# Altium footprint library PCB_Passive.PcbLib: 45 footprints (part 1 of 3)
Each footprint in its own frame and in the unit in brackets; x right, y up, seen from the top. Pads: shape width x height; smd on the part's side, far side on the other; paste and mask are expansions set on the pad; w line width, h text height; cw(c..) or ccw(c..) is an arc to the next point about the centre after c.
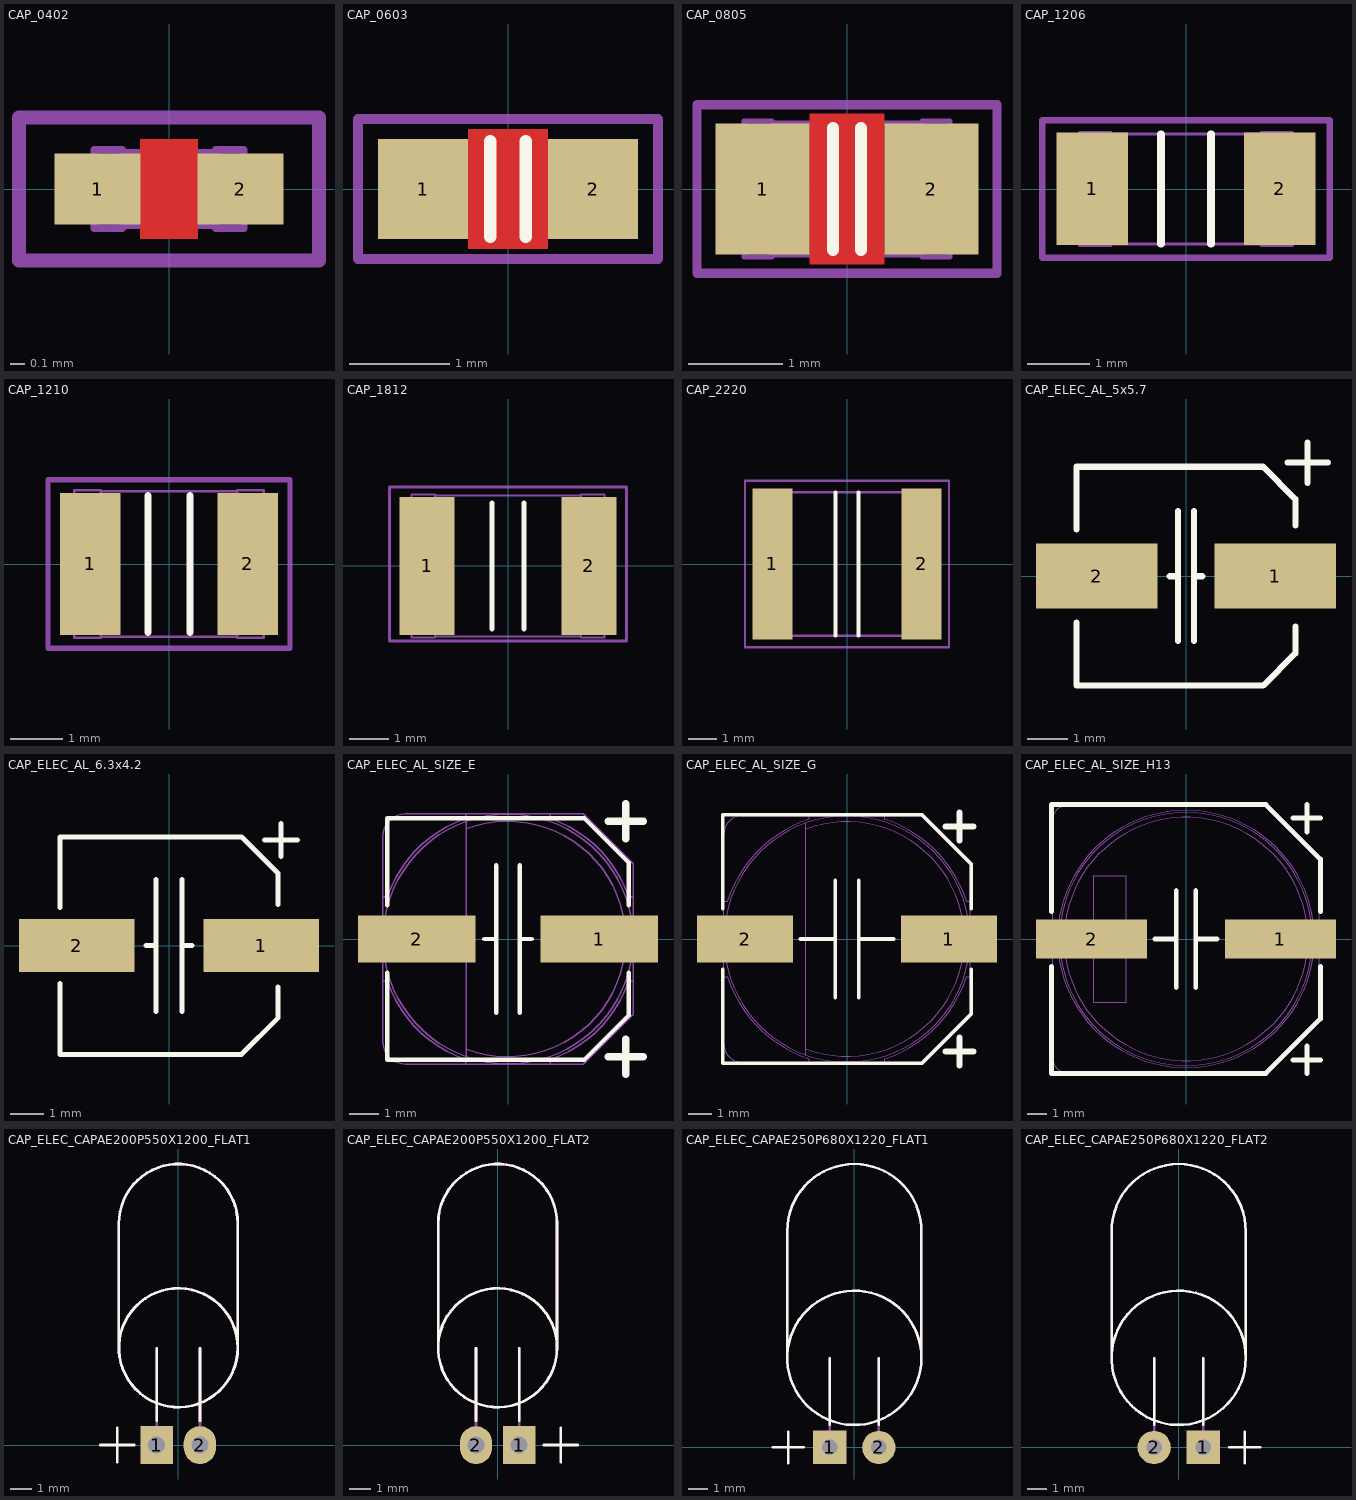
[diagram p0: the footprints below, top view; thin cyan lines are the x and y axes]

## CAP_0402 [mm] "Chip Capacitor, Body 1.0x0.5mm, 0402, IPC Medium Density"
height 0.55
pads (2):
  rect 0.6x0.5 smd: 1(-0.5,0) 2(0.5,0)
Top Layer:
  pour cut-out: -0.2,0.35 0.2,0.35 0.2,-0.35 -0.2,-0.35
Mechanical 13:
  lines w0.05: -0.325,-0.255 0.325,-0.255 ; -0.325,0.255 0.325,0.255 ; -0.525,-0.275 -0.325,-0.275 -0.325,0.275 -0.525,0.275 -0.525,-0.275 ; 0.325,-0.275 0.325,0.275 0.525,0.275 0.525,-0.275 0.325,-0.275
Mechanical 14:
  lines w0.1: -1.05,-0.5 1.05,-0.5 1.05,0.5 -1.05,0.5 -1.05,-0.5
3D body: height 0.55, standoff 0, extent -0.525,-0.275 0.525,0.275

## CAP_0603 [mm] "Chip Capacitor, Body 1.6x0.8mm, 0603, IPC Medium Density"
height 0.8
pads (2):
  rect 0.9x1 smd: 1(-0.85,0) 2(0.85,0)
Top Layer:
  pour cut-out: -0.4,0.6 0.4,0.6 0.4,-0.6 -0.4,-0.6
Top Overlay:
  lines w0.127: -0.178,-0.476 -0.178,0.476 ; 0.178,-0.476 0.178,0.476
Mechanical 13:
  lines w0.05: -0.55,-0.43 0.55,-0.43 ; -0.55,0.43 0.55,0.43 ; -0.85,-0.45 -0.55,-0.45 -0.55,0.45 -0.85,0.45 -0.85,-0.45 ; 0.55,-0.45 0.85,-0.45 0.85,0.45 0.55,0.45 0.55,-0.45
Mechanical 14:
  lines w0.1: -1.5,-0.7 1.5,-0.7 1.5,0.7 -1.5,0.7 -1.5,-0.7
3D body: height 0.89, standoff -0.01, extent -0.85,-0.45 0.85,0.45

## CAP_0805 [mm] "Chip Capacitor, Body 2.0x1.2mm, 0805, IPC Medium Density"
height 1.2
pads (2):
  rect 1x1.4 smd: 1(-0.9,0) 2(0.9,0)
Top Layer:
  pour cut-out: -0.4,0.8 0.4,0.8 0.4,-0.8 -0.4,-0.8
Top Overlay:
  lines w0.127: -0.15,-0.651 -0.15,0.651 ; 0.15,-0.651 0.15,0.651
Mechanical 13:
  lines w0.05: -0.8,-0.705 0.8,-0.705 ; -0.8,0.705 0.8,0.705 ; -1.1,-0.725 -0.8,-0.725 -0.8,0.725 -1.1,0.725 -1.1,-0.725 ; 0.8,-0.725 0.8,0.725 1.1,0.725 1.1,-0.725 0.8,-0.725
Mechanical 14:
  lines w0.1: -1.6,-0.9 1.6,-0.9 1.6,0.9 -1.6,0.9 -1.6,-0.9
3D body: height 1.34, standoff -0.01, extent -1.1,-0.725 1.1,0.725

## CAP_1206 [mm] "Chip Capacitor, Body 3.2x1.6mm, 1206, IPC Medium Density"
height 1.6
pads (2):
  rect 1.15x1.8 smd: 1(-1.5,0) 2(1.5,0)
Top Overlay:
  lines w0.127: -0.4,-0.876 -0.4,0.876 ; 0.4,-0.876 0.4,0.876
Mechanical 13:
  lines w0.05: -1.2,-0.88 1.2,-0.88 ; -1.2,0.88 1.2,0.88 ; -1.7,-0.9 -1.7,0.9 -1.2,0.9 -1.2,-0.9 -1.7,-0.9 ; 1.2,-0.9 1.2,0.9 1.7,0.9 1.7,-0.9 1.2,-0.9
Mechanical 14:
  lines w0.1: -2.3,-1.1 2.3,-1.1 2.3,1.1 -2.3,1.1 -2.3,-1.1
3D body: height 1.74, standoff -0.01, extent -1.7,-0.9 1.7,0.9

## CAP_1210 [mm] "Chip Capacitor, Body 3.2x2.5mm, 1210, IPC Medium Density"
height 2.54
pads (2):
  rect 1.15x2.7 smd: 1(-1.5,0) 2(1.5,0)
Top Overlay:
  lines w0.127: -0.4,-1.3 -0.4,1.3 ; 0.4,-1.3 0.4,1.3
Mechanical 13:
  lines w0.05: -1.3,-1.38 1.3,-1.38 ; -1.3,1.38 1.3,1.38 ; -1.8,-1.4 -1.8,1.4 -1.3,1.4 -1.3,-1.4 -1.8,-1.4 ; 1.3,-1.4 1.8,-1.4 1.8,1.4 1.3,1.4 1.3,-1.4
Mechanical 14:
  lines w0.1: -2.3,-1.6 2.3,-1.6 2.3,1.6 -2.3,1.6 -2.3,-1.6
3D body: height 2.19, standoff -0.01, extent -1.8,-1.4 1.8,1.4

## CAP_1812 [mm] "Chip Capacitor, Body 4.5x3.2mm, 1812, IPC Medium Density"
height 2.5
pads (2):
  rect 1.4x3.5 smd: 1(-2.05,0) 2(2.05,0)
Top Overlay:
  lines w0.127: -0.4,-1.6 -0.4,1.6 ; 0.4,-1.6 0.4,1.6
Mechanical 13:
  lines w0.05: -1.85,-1.791 1.85,-1.791 ; -1.85,1.791 1.85,1.791 ; -2.45,-1.811 -2.45,1.811 -1.85,1.811 -1.85,-1.811 -2.45,-1.811 ; 1.85,-1.811 2.45,-1.811 2.45,1.811 1.85,1.811 1.85,-1.811
Mechanical 14:
  lines w0.076: -3,-1.9 -3,2 3,2 3,-1.9 -3,-1.9
3D body: height 2.79, standoff -0.01, extent -2.45,-1.8 2.45,1.8

## CAP_2220 [mm] "Chip Capacitor, Body 5.7x5.0mm, 2220, IPC Medium Density"
height 2.5
pads (2):
  rect 1.4x5.25 smd: 1(-2.6,0) 2(2.6,0)
Top Overlay:
  lines w0.127: -0.4,-2.5 -0.4,2.5 ; 0.4,-2.5 0.4,2.5
Mechanical 13:
  lines w0.076: -2.85,-2.5 2.85,-2.5 2.85,2.5 -2.85,2.5 -2.85,-2.5
Mechanical 14:
  lines w0.076: -3.55,-2.9 -3.55,2.9 3.55,2.9 3.55,-2.9 -3.55,-2.9
3D body: height 2.49, standoff -0.01, extent -3.05,-2.7 3.05,2.7

## CAP_ELEC_AL_5x5.7 [mm] "Capacitor, polarized, aluminum can; 5x5.7mm DxH"
height 5.7
pads (2):
  rect 3x1.6 smd: 1(2.2,0) 2(-2.2,0)
Top Overlay:
  lines w0.152: -2.7,-1.15 -2.7,-2.7 1.9,-2.7 2.7,-1.9 2.7,-1.25 ; -2.7,1.15 -2.7,2.7 1.9,2.7 2.7,1.9 2.7,1.25 ; -0.4,0 -0.2,0 ; -0.2,-1.6 -0.2,1.6 ; 0.2,-1.6 0.2,1.6 ; 0.2,0 0.4,0 ; 2.5,2.8 3,2.8 3.5,2.8 ; 3,2.3 3,3.3
3D body: height 5.7, standoff 0, extent -2.65,-2.65 2.65,2.65

## CAP_ELEC_AL_6.3x4.2 [mm] "Capacitor, polarized, aluminum can; 6.3x4.2mm DxH"
height 4.2
pads (2):
  rect 3.5x1.6 smd: 1(2.8,0) 2(-2.8,0)
Top Overlay:
  lines w0.152: -3.3,-1.15 -3.3,-3.3 2.2,-3.3 3.3,-2.2 3.3,-1.25 ; -3.3,1.15 -3.3,3.3 2.2,3.3 3.3,2.2 3.3,1.25 ; -0.7,0 -0.5,0 ; -0.4,-2 -0.4,2 ; 0.4,-2 0.4,2 ; 0.5,0 0.7,0 ; 2.9,3.2 3.4,3.2 3.9,3.2 ; 3.4,2.7 3.4,3.7
3D body: height 4.23, standoff 0, extent -3.3,-3.3 3.3,3.3

## CAP_ELEC_AL_SIZE_E [mm] "Capacitor, polarized, aluminum can; 8.0x6.2mm DxH"
height 6.2
pads (2):
  rect 4x1.6 smd: 1(3.1,0) 2(-3.1,0)
Top Overlay:
  lines w0.152: -4.1,-1.15 -4.1,-4.1 2.6,-4.1 4.1,-2.6 4.1,-1.15 ; -4.1,1.15 -4.1,4.1 2.6,4.1 4.1,2.6 4.1,1.15 ; -0.8,0 -0.4,0 ; -0.4,-2.5 -0.4,2.5 ; 0.4,-2.5 0.4,2.5 ; 0.4,0 0.8,0
  lines w0.254: 3.4,-4 4.6,-4 ; 3.4,4 4.6,4 ; 4,-4.6 4,-3.4 ; 4,3.4 4,4.6
Mechanical 13:
  lines w0.05: -4.25,-1.436 -4.106,-1.436 ccw(c0,0) -1.436,-4.106 -1.436,-4.25 ; -4.25,-0.325 -4.75,-0.325 -4.75,0.325 -4.25,0.325 ; -4.25,1.436 -4.106,1.436 cw(c0,0) -1.436,4.106 -1.436,4.25 ; -1.417,-4.005 cw(c0,0) -1.417,4.005 ; -1.417,-3.741 ccw(c0,0) -1.417,3.741 ; 1.436,-4.25 1.436,-4.106 ccw(c0,0) 4.106,-1.436 4.25,-1.436 ; 1.436,4.25 1.436,4.106 cw(c0,0) 4.106,1.436 4.25,1.436 ; 4.25,-0.325 4.75,-0.325 4.75,0.325 4.25,0.325 ; -4.25,-3.5 ccw(c-3.5,-3.5) -3.5,-4.25 2.55,-4.25 4.25,-2.55 4.25,2.55 2.55,4.25 -3.5,4.25 ccw(c-3.5,3.5) -4.25,3.5 -4.25,-3.5 ; -1.417,-4.007 ccw(c0,0) -1.417,4.007 -1.417,-4.007
3D body: height 6.5, standoff 0, extent -4.75,-4.25 4.75,4.25

## CAP_ELEC_AL_SIZE_G [mm] "Capacitor, polarized, aluminum can; 10.0x10.2mm DxH"
height 10.2
pads (2):
  rect 4.1x2 smd: 1(4.35,0) 2(-4.35,0)
Top Overlay:
  lines w0.152: -5.3,-1.3 -5.3,-5.3 3.2,-5.3 5.3,-3.2 5.3,-1.3 ; -5.3,1.3 -5.3,5.3 3.2,5.3 5.3,3.2 5.3,1.3 ; -2,0 -0.5,0 ; -0.5,-2.5 -0.5,2.5 ; 0.5,-2.5 0.5,2.5 ; 0.5,0 2,0
  lines w0.254: 4.2,-4.8 5.4,-4.8 ; 4.2,4.8 5.4,4.8 ; 4.8,-5.4 4.8,-4.2 ; 4.8,4.2 4.8,5.4
Mechanical 13:
  lines w0.05: -5.25,-1.601 -5.105,-1.601 ccw(c0,0) -1.601,-5.105 -1.601,-5.25 ; -5.25,-0.45 -6,-0.45 -6,0.45 -5.25,0.45 ; -5.25,1.601 -5.105,1.601 cw(c0,0) -1.601,5.105 -1.601,5.25 ; -1.75,-4.948 cw(c0,0) -1.75,4.948 ; -1.75,-4.684 ccw(c0,0) -1.75,4.684 ; 1.601,-5.25 1.601,-5.105 ccw(c0,0) 5.105,-1.601 5.25,-1.601 ; 1.601,5.25 1.601,5.105 cw(c0,0) 5.105,1.601 5.25,1.601 ; 5.25,-0.45 6,-0.45 6,0.45 5.25,0.45 ; -5.25,-4.5 ccw(c-4.5,-4.5) -4.5,-5.25 3.15,-5.25 5.25,-3.15 5.25,3.15 3.15,5.25 -4.5,5.25 ccw(c-4.5,4.5) -5.25,4.5 -5.25,-4.5 ; -1.75,-4.95 ccw(c0,0) -1.75,4.95 -1.75,-4.95
3D body: height 10.5, standoff 0, extent -6,-5.25 6,5.25

## CAP_ELEC_AL_SIZE_H13 [mm] "Capacitor, polarized, aluminum can; 12.5x13.5mm DxH"
height 13.5
pads (2):
  rect 5.7x2 smd: 1(4.85,0) 2(-4.85,0)
Top Overlay:
  lines w0.254: -6.9,-1.4 -6.9,-6.9 4.1,-6.9 6.9,-4.1 6.9,-1.4 ; -6.9,1.4 -6.9,6.9 4.1,6.9 6.9,4.1 6.9,1.4 ; -1.6,0 -0.5,0 ; -0.5,-2.5 -0.5,2.5 ; 0.5,-2.5 0.5,2.5 ; 0.5,0 1.6,0 ; 5.5,-6.2 6.9,-6.2 ; 5.5,6.2 6.9,6.2 ; 6.2,-6.9 6.2,-5.5 ; 6.2,5.5 6.2,6.9
Mechanical 13:
  circle w0.05: c0,0 r6.6
  circle w0.05: c0,0 r6.5
  circle w0.05: c0,0 r6.25
  lines w0.05: -6.85,-0.45 -7.5,-0.45 -7.5,0.45 -6.85,0.45 ; 6.85,-0.45 7.5,-0.45 7.5,0.45 6.85,0.45 ; -6.85,-6.1 ccw(c-6.1,-6.1) -6.1,-6.85 4.11,-6.85 6.85,-4.11 6.85,4.11 4.11,6.85 -6.1,6.85 ccw(c-6.1,6.1) -6.85,6.1 -6.85,-6.1 ; -4.745,-3.25 -3.055,-3.25 -3.055,3.25 -4.745,3.25 -4.745,-3.25
3D body: height 14, standoff 0, extent -7.5,-6.85 7.5,6.85

## CAP_ELEC_CAPAE200P550X1200_FLAT1 [mil]
height 216.54
pads (2):
  rect 60x70 hole 31.5: 1(-40,0)
  oval 60x70 hole 31.5: 2(40,0)
Top Overlay:
  circle w5: c0,180 r110
  lines w5: -144.57,0 -81.57,0 ; -113.07,-31.5 -113.07,31.5 ; -110,180 -110,410 cw(c0,410) 110,410 110,180 ; -40,45 -40,179.21 ; 40,45 40,179.21
Mechanical 13:
  circle w5: c0,180 r110
  lines w5: -110,180 -110,410 cw(c0,410) 110,410 110,180 ; -40,0 -40,179.21 ; 40,0 40,179.21
3D body: height 215.69, standoff -70, extent -107.37,-9.82 107.35,502.05

## CAP_ELEC_CAPAE200P550X1200_FLAT2 [mil]
height 216.54
pads (2):
  rect 60x70 hole 31.5: 1(40,0)
  oval 60x70 hole 31.5: 2(-40,0)
Top Overlay:
  circle w5: c0,180 r110
  lines w5: -110,180 -110,410 cw(c0,410) 110,410 110,180 ; -40,45 -40,179.21 ; 40,45 40,179.21 ; 85.43,0 148.43,0 ; 116.93,-31.5 116.93,31.5
Mechanical 13:
  circle w5: c0,180 r110
  lines w5: -110,180 -110,410 cw(c0,410) 110,410 110,180 ; -40,0 -40,179.21 ; 40,0 40,179.21
3D body: height 215.69, standoff -70, extent -107.33,-9.82 107.39,502.05

## CAP_ELEC_CAPAE250P680X1220_FLAT1 [mm]
height 6.8
pads (2):
  rect 1.7x1.7 hole 0.8: 1(-1.25,0)
  round 1.7 hole 0.8: 2(1.25,0)
Top Overlay:
  circle w0.127: c0,4.572 r3.429
  lines w0.127: -4.18,0 -2.58,0 ; -3.429,4.572 -3.429,11.049 cw(c0,11.049) 3.429,11.049 3.429,4.572 ; -3.38,-0.8 -3.38,0.8 ; -1.25,1.143 -1.25,4.552 ; 1.25,1.143 1.25,4.552
Mechanical 13:
  circle w0.127: c0,4.572 r3.429
  lines w0.127: -3.429,4.572 -3.429,11.049 cw(c0,11.049) 3.429,11.049 3.429,4.572 ; -1.25,0 -1.25,4.552 ; 1.25,0 1.25,4.552
3D body: height 6.77, standoff -1.78, extent -3.372,-0.249 3.371,12.952

## CAP_ELEC_CAPAE250P680X1220_FLAT2 [mm]
height 6.8
pads (2):
  rect 1.7x1.7 hole 0.8: 1(1.25,0)
  round 1.7 hole 0.8: 2(-1.25,0)
Top Overlay:
  circle w0.127: c0,4.572 r3.429
  lines w0.127: -3.429,4.572 -3.429,11.049 cw(c0,11.049) 3.429,11.049 3.429,4.572 ; -1.25,1.143 -1.25,4.552 ; 1.25,1.143 1.25,4.552 ; 2.58,0 4.18,0 ; 3.38,-0.8 3.38,0.8
Mechanical 13:
  circle w0.127: c0,4.572 r3.429
  lines w0.127: -3.429,4.572 -3.429,11.049 cw(c0,11.049) 3.429,11.049 3.429,4.572 ; -1.25,0 -1.25,4.552 ; 1.25,0 1.25,4.552
3D body: height 6.77, standoff -1.78, extent -3.371,-0.249 3.372,12.952